# EAGLE library part M-2X25- (library con-headers-jp)
MALE HEADER
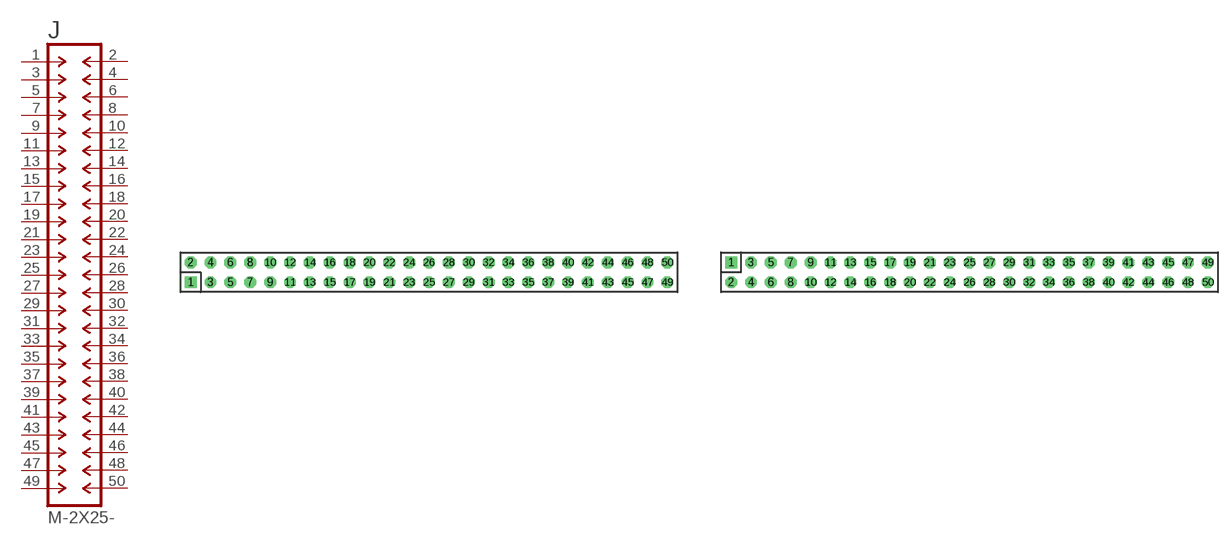
[diagram p74: symbol with the pads of DIL-100-2X25; footprints DIL-100-2X25, DIL-100-2X25_M]

Designator prefix J

## M-2X25-DIL-100  [DIL-100-2X25]
1  1  pas
2  2  pas
3  3  pas
4  4  pas
5  5  pas
6  6  pas
7  7  pas
8  8  pas
9  9  pas
10  10  pas
11  11  pas
12  12  pas
13  13  pas
14  14  pas
15  15  pas
16  16  pas
17  17  pas
18  18  pas
19  19  pas
20  20  pas
21  21  pas
22  22  pas
23  23  pas
24  24  pas
25  25  pas
26  26  pas
27  27  pas
28  28  pas
29  29  pas
30  30  pas
31  31  pas
32  32  pas
33  33  pas
34  34  pas
35  35  pas
36  36  pas
37  37  pas
38  38  pas
39  39  pas
40  40  pas
41  41  pas
42  42  pas
43  43  pas
44  44  pas
45  45  pas
46  46  pas
47  47  pas
48  48  pas
49  49  pas
50  50  pas

## M-2X25-DIL-100_M  [DIL-100-2X25_M]
Pads as for DIL-100-2X25

## M-2X25-DIL-2MM  [DIL-2MM-2X25]
Pads as for DIL-100-2X25

## M-2X25-DIL-2MM_M  [DIL-2MM-2X25_M]
Pads as for DIL-100-2X25

## Footprint DIL-100-2X25 (pad centres in mm)
PIN HEADER - 0.1"
drill 1.016 square: 1 -30.48,-1.27
drill 1.016 octagon: 2 -30.48,1.27; 3 -27.94,-1.27; 4 -27.94,1.27; 5 -25.4,-1.27; 6 -25.4,1.27; 7 -22.86,-1.27; 8 -22.86,1.27; 9 -20.32,-1.27; 10 -20.32,1.27; 11 -17.78,-1.27; 12 -17.78,1.27; 13 -15.24,-1.27; 14 -15.24,1.27; 15 -12.7,-1.27; 16 -12.7,1.27; 17 -10.16,-1.27; 18 -10.16,1.27; 19 -7.62,-1.27; 20 -7.62,1.27; 21 -5.08,-1.27; 22 -5.08,1.27; 23 -2.54,-1.27; 24 -2.54,1.27; 25 0,-1.27; 26 0,1.27; 27 2.54,-1.27; 28 2.54,1.27; 29 5.08,-1.27; 30 5.08,1.27; 31 7.62,-1.27; 32 7.62,1.27; 33 10.16,-1.27; 34 10.16,1.27; 35 12.7,-1.27; 36 12.7,1.27; 37 15.24,-1.27; 38 15.24,1.27; 39 17.78,-1.27; 40 17.78,1.27; 41 20.32,-1.27; 42 20.32,1.27; 43 22.86,-1.27; 44 22.86,1.27; 45 25.4,-1.27; 46 25.4,1.27; 47 27.94,-1.27; 48 27.94,1.27; 49 30.48,-1.27; 50 30.48,1.27

## Footprint DIL-100-2X25_M (pad centres in mm)
PIN HEADER - MIRRORED 0.1"
drill 1.016 square: 1 -30.48,1.27
drill 1.016 octagon: 2 -30.48,-1.27; 3 -27.94,1.27; 4 -27.94,-1.27; 5 -25.4,1.27; 6 -25.4,-1.27; 7 -22.86,1.27; 8 -22.86,-1.27; 9 -20.32,1.27; 10 -20.32,-1.27; 11 -17.78,1.27; 12 -17.78,-1.27; 13 -15.24,1.27; 14 -15.24,-1.27; 15 -12.7,1.27; 16 -12.7,-1.27; 17 -10.16,1.27; 18 -10.16,-1.27; 19 -7.62,1.27; 20 -7.62,-1.27; 21 -5.08,1.27; 22 -5.08,-1.27; 23 -2.54,1.27; 24 -2.54,-1.27; 25 0,1.27; 26 0,-1.27; 27 2.54,1.27; 28 2.54,-1.27; 29 5.08,1.27; 30 5.08,-1.27; 31 7.62,1.27; 32 7.62,-1.27; 33 10.16,1.27; 34 10.16,-1.27; 35 12.7,1.27; 36 12.7,-1.27; 37 15.24,1.27; 38 15.24,-1.27; 39 17.78,1.27; 40 17.78,-1.27; 41 20.32,1.27; 42 20.32,-1.27; 43 22.86,1.27; 44 22.86,-1.27; 45 25.4,1.27; 46 25.4,-1.27; 47 27.94,1.27; 48 27.94,-1.27; 49 30.48,1.27; 50 30.48,-1.27

## Footprint DIL-2MM-2X25 (pad centres in mm)
PIN HEADER - 2MM
drill 0.711 square: 1 -24,-1
drill 0.711: 2 -24,1; 3 -22,-1; 4 -22,1; 5 -20,-1; 6 -20,1; 7 -18,-1; 8 -18,1; 9 -16,-1; 10 -16,1; 11 -14,-1; 12 -14,1; 13 -12,-1; 14 -12,1; 15 -10,-1; 16 -10,1; 17 -8,-1; 18 -8,1; 19 -6,-1; 20 -6,1; 21 -4,-1; 22 -4,1; 23 -2,-1; 24 -2,1; 25 0,-1; 26 0,1; 27 2,-1; 28 2,1; 29 4,-1; 30 4,1; 31 6,-1; 32 6,1; 33 8,1; 34 8,-1; 35 10,1; 36 10,-1; 37 12,1; 38 12,-1; 39 14,1; 40 14,-1; 41 16,-1; 42 16,1; 43 18,-1; 44 18,1; 45 20,1; 46 20,-1; 47 22,1; 48 22,-1; 49 24,-1; 50 24,1

## Footprint DIL-2MM-2X25_M (pad centres in mm)
PIN HEADER - MIRRORED 2MM
drill 0.711 square: 1 -24,1
drill 0.711: 2 -24,-1; 3 -22,1; 4 -22,-1; 5 -20,1; 6 -20,-1; 7 -18,1; 8 -18,-1; 9 -16,1; 10 -16,-1; 11 -14,1; 12 -14,-1; 13 -12,1; 14 -12,-1; 15 -10,1; 16 -10,-1; 17 -8,1; 18 -8,-1; 19 -6,1; 20 -6,-1; 21 -4,1; 22 -4,-1; 23 -2,1; 24 -2,-1; 25 0,1; 26 0,-1; 27 2,1; 28 2,-1; 29 4,1; 30 4,-1; 31 6,1; 32 6,-1; 33 8,-1; 34 8,1; 35 10,-1; 36 10,1; 37 12,-1; 38 12,1; 39 14,-1; 40 14,1; 41 16,1; 42 16,-1; 43 18,1; 44 18,-1; 45 20,-1; 46 20,1; 47 22,-1; 48 22,1; 49 24,1; 50 24,-1